# Altium footprint library RFmodules.PcbLib: 47 footprints (part 3 of 3)
Each footprint in its own frame and in the unit in brackets; x right, y up, seen from the top. Pads: shape width x height; smd on the part's side, far side on the other; paste and mask are expansions set on the pad; w line width, h text height; cw(c..) or ccw(c..) is an arc to the next point about the centre after c.
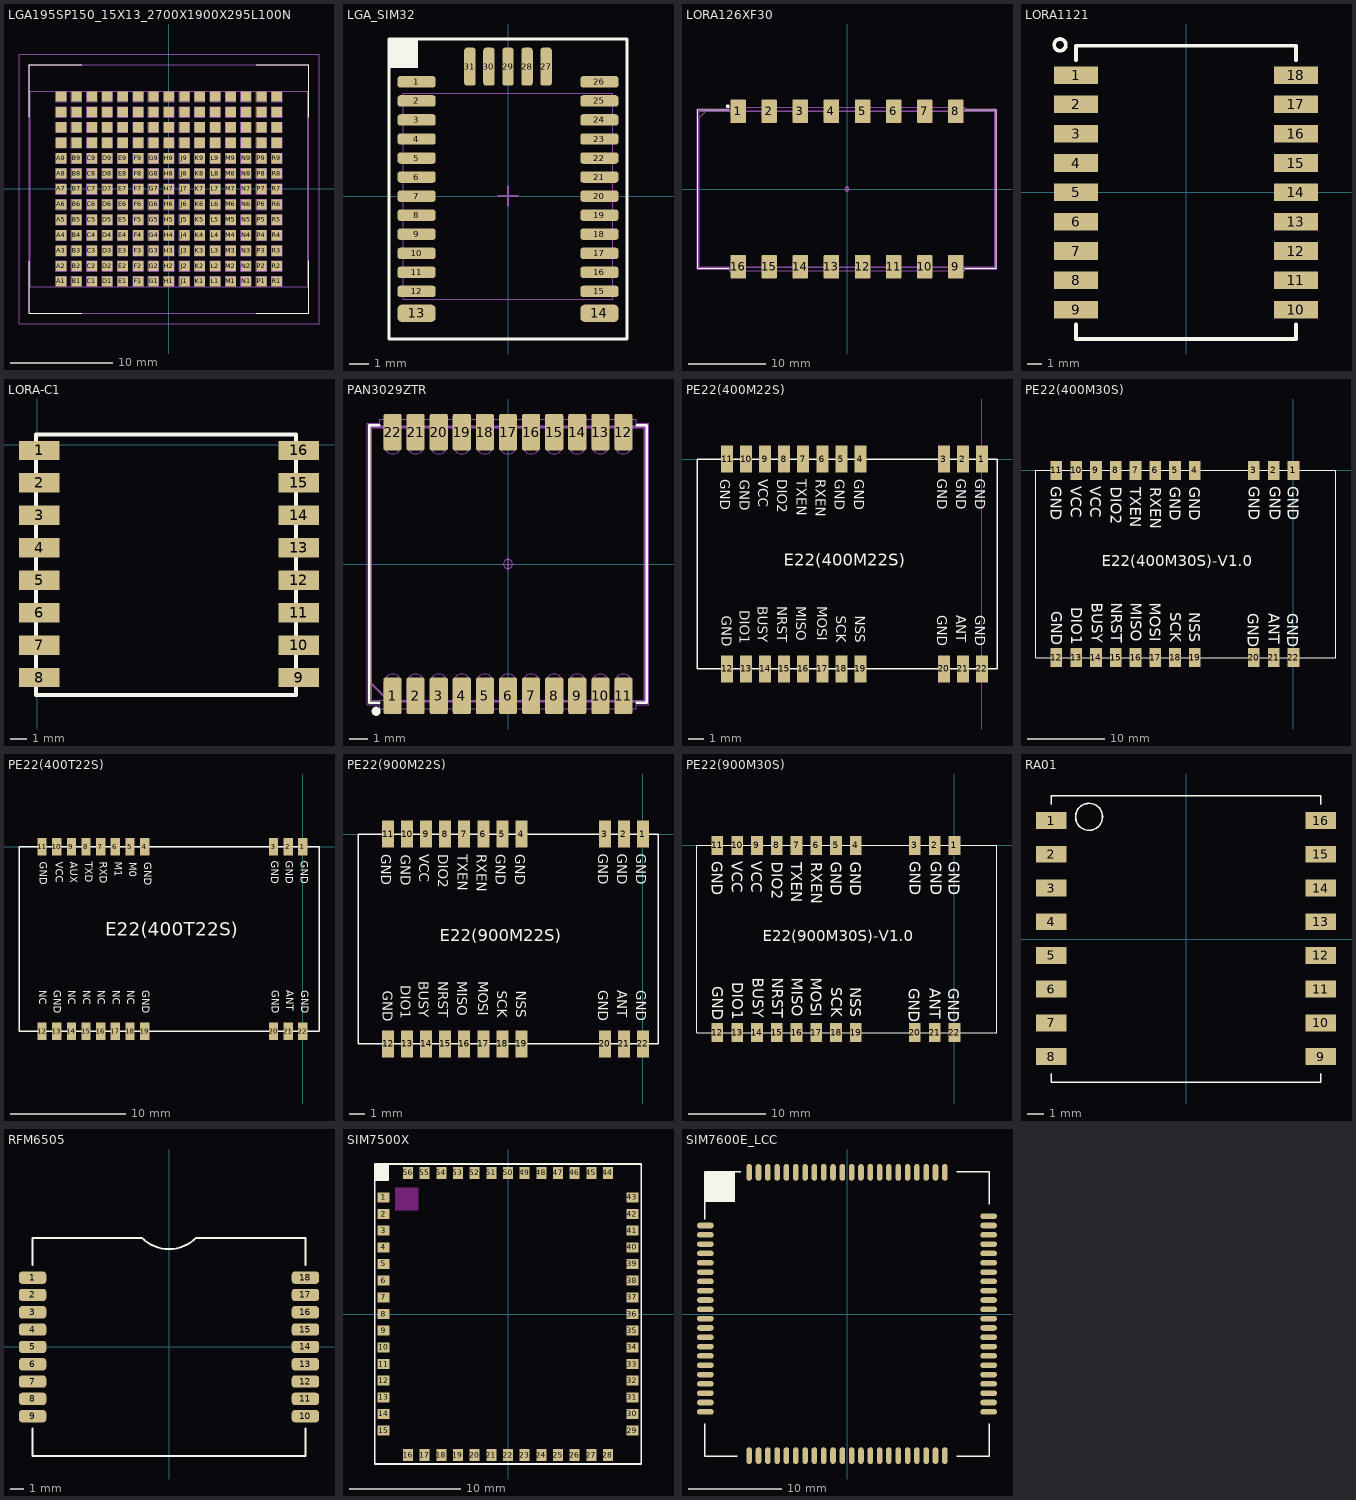
[diagram p2: the footprints below, top view; thin cyan lines are the x and y axes]

## LGA195SP150_15X13_2700X1900X295L100N [mm] "Land Grid Array (LGA), 1.50 mm pitch, rect.; 195 pin, 27.00 mm L X 19.00 mm W X 2.95 mm H body"
height 2.95
pads (195):
  rect 1x1 smd: A1(-10.5,-9) A2(-10.5,-7.5) A3(-10.5,-6) A4(-10.5,-4.5) A5(-10.5,-3) A6(-10.5,-1.5) A7(-10.5,0) A8(-10.5,1.5) A9(-10.5,3) A10(-10.5,4.5) A11(-10.5,6) A12(-10.5,7.5) A13(-10.5,9) B1(-9,-9) B2(-9,-7.5) B3(-9,-6) B4(-9,-4.5) B5(-9,-3) B6(-9,-1.5) B7(-9,0) B8(-9,1.5) B9(-9,3) B10(-9,4.5) B11(-9,6) B12(-9,7.5) B13(-9,9) C1(-7.5,-9) C2(-7.5,-7.5) C3(-7.5,-6) C4(-7.5,-4.5) C5(-7.5,-3) C6(-7.5,-1.5) C7(-7.5,0) C8(-7.5,1.5) C9(-7.5,3) C10(-7.5,4.5) C11(-7.5,6) C12(-7.5,7.5) C13(-7.5,9) D1(-6,-9) D2(-6,-7.5) D3(-6,-6) D4(-6,-4.5) D5(-6,-3) D6(-6,-1.5) D7(-6,0) D8(-6,1.5) D9(-6,3) D10(-6,4.5) D11(-6,6) D12(-6,7.5) D13(-6,9) E1(-4.5,-9) E2(-4.5,-7.5) E3(-4.5,-6) E4(-4.5,-4.5) E5(-4.5,-3) E6(-4.5,-1.5) E7(-4.5,0) E8(-4.5,1.5) E9(-4.5,3) E10(-4.5,4.5) E11(-4.5,6) E12(-4.5,7.5) E13(-4.5,9) F1(-3,-9) F2(-3,-7.5) F3(-3,-6) F4(-3,-4.5) F5(-3,-3) F6(-3,-1.5) F7(-3,0) F8(-3,1.5) F9(-3,3) F10(-3,4.5) F11(-3,6) F12(-3,7.5) F13(-3,9) G1(-1.5,-9) G2(-1.5,-7.5) G3(-1.5,-6) G4(-1.5,-4.5) G5(-1.5,-3) G6(-1.5,-1.5) G7(-1.5,0) G8(-1.5,1.5) G9(-1.5,3) G10(-1.5,4.5) G11(-1.5,6) G12(-1.5,7.5) G13(-1.5,9) H1(0,-9) H2(0,-7.5) H3(0,-6) H4(0,-4.5) H5(0,-3) H6(0,-1.5) H7(0,0) H8(0,1.5) H9(0,3) H10(0,4.5) H11(0,6) H12(0,7.5) H13(0,9) J1(1.5,-9) J2(1.5,-7.5) J3(1.5,-6) J4(1.5,-4.5) J5(1.5,-3) J6(1.5,-1.5) J7(1.5,0) J8(1.5,1.5) J9(1.5,3) J10(1.5,4.5) J11(1.5,6) J12(1.5,7.5) J13(1.5,9) K1(3,-9) K2(3,-7.5) K3(3,-6) K4(3,-4.5) K5(3,-3) K6(3,-1.5) K7(3,0) K8(3,1.5) K9(3,3) K10(3,4.5) K11(3,6) K12(3,7.5) K13(3,9) L1(4.5,-9) L2(4.5,-7.5) L3(4.5,-6) L4(4.5,-4.5) L5(4.5,-3) L6(4.5,-1.5) L7(4.5,0) L8(4.5,1.5) L9(4.5,3) L10(4.5,4.5) L11(4.5,6) L12(4.5,7.5) L13(4.5,9) M1(6,-9) M2(6,-7.5) M3(6,-6) M4(6,-4.5) M5(6,-3) M6(6,-1.5) M7(6,0) M8(6,1.5) M9(6,3) M10(6,4.5) M11(6,6) M12(6,7.5) M13(6,9) N1(7.5,-9) N2(7.5,-7.5) N3(7.5,-6) N4(7.5,-4.5) N5(7.5,-3) N6(7.5,-1.5) N7(7.5,0) N8(7.5,1.5) N9(7.5,3) N10(7.5,4.5) N11(7.5,6) N12(7.5,7.5) N13(7.5,9) P1(9,-9) P2(9,-7.5) P3(9,-6) P4(9,-4.5) P5(9,-3) P6(9,-1.5) P7(9,0) P8(9,1.5) P9(9,3) P10(9,4.5) P11(9,6) P12(9,7.5) P13(9,9) R1(10.5,-9) R2(10.5,-7.5) R3(10.5,-6) R4(10.5,-4.5) R5(10.5,-3) R6(10.5,-1.5) R7(10.5,0) R8(10.5,1.5) R9(10.5,3) R10(10.5,4.5) R11(10.5,6) R12(10.5,7.5) R13(10.5,9)
Top Overlay:
  lines w0.12: -13.58,-7 -13.58,-12.08 -8.5,-12.08 ; -13.58,7 -13.58,12.08 -8.5,12.08 ; 8.5,-12.08 13.58,-12.08 13.58,-7 ; 8.5,12.08 13.58,12.08 13.58,7
Mechanical 11:
  lines w0.12: -13.58,-12.08 13.58,-12.08 13.58,12.08 -13.58,12.08 -13.58,-12.08
Mechanical 12:
  drawing of 784 lines, arcs and shapes, not listed
Mechanical 15:
  circle w0.05: c0,0 r0.25
  lines w0.05: -0.35,0 0.35,0 ; 0,-0.35 0,0.35 ; -14.6,-13.1 14.6,-13.1 14.6,13.1 -14.6,13.1 -14.6,-13.1
Mechanical 16:
  text ".Designator" at 0,0 h1.2
3D body "LGA195SP150_15X13_2700X1900X295L100.STEP": height 2.95, standoff 0, extent -13.5,-9.5 13.5,9.5

## LGA_SIM32 [mm] "0mm"
height 2.6
pads (31):
  rrect50% 2x0.6 smd mask+0.1: 1(-4.8,6) 2(-4.8,5) 3(-4.8,4) 4(-4.8,3) 5(-4.8,2) 6(-4.8,1) 7(-4.8,0) 8(-4.8,-1) 9(-4.8,-2) 10(-4.8,-3) 11(-4.8,-4) 12(-4.8,-5) 15(4.8,-5) 16(4.8,-4) 17(4.8,-3) 18(4.8,-2) 19(4.8,-1) 20(4.8,0) 21(4.8,1) 22(4.8,2) 23(4.8,3) 24(4.8,4) 25(4.8,5) 26(4.8,6)
  rrect50% 2x0.9 smd mask+0.1: 13(-4.8,-6.15) 14(4.8,-6.15)
  rrect50% 0.6x2 smd mask+0.1: 27(2,6.8) 28(1,6.8) 29(0,6.8) 30(-1,6.8) 31(-2,6.8)
Top Overlay:
  region: -6.25,8.25 -6.25,6.75 -4.75,6.75 -4.75,8.25
  lines w0.15: -6.25,-7.5 -6.25,8.25 6.25,8.25 6.25,-7.5 -6.25,-7.5
Mechanical 15:
  lines w0.05: -5.505,-5.4 5.505,-5.4 5.505,5.4 -5.505,5.4 -5.505,-5.4
  lines w0.1: -0.5,0 0.5,0 ; 0,-0.5 0,0.5
3D body "SIM33ELA.step": height 2.25, standoff -0.03, extent -4.8,-7.225 4.8,6.75

## LORA126XF30 [mm] "Small Outline No-Lead (SON), 4.00 mm pitch; 16 pin, 38.00 mm L X 20.00 mm W X 3.00 mm H body (w/reversed pins)"
height 3
pads (16):
  rrect11% 2x3 smd: 1(-14,10) 2(-10,10) 3(-6,10) 4(-2,10) 5(2,10) 6(6,10) 7(10,10) 8(14,10) 9(14,-10) 10(10,-10) 11(6,-10) 12(2,-10) 13(-2,-10) 14(-6,-10) 15(-10,-10) 16(-14,-10)
Top Overlay:
  circle w0.25: c-15.35,10.65 r0.125
  lines w0.15: -15.175,-10.175 -19.175,-10.175 -19.175,10.175 -15.175,10.175 ; 15.175,-10.175 19.175,-10.175 19.175,10.175 15.175,10.175
Bottom Component Center:
  circle w0.05: c0,0 r0.25
  lines w0.05: -19.3,-10.3 -19.3,10.3 -15.15,10.3 -15.15,10.499 15.15,10.499 15.15,10.3 19.3,10.3 19.3,-10.3 15.15,-10.3 15.15,-10.499 -15.15,-10.499 -15.15,-10.3 -19.3,-10.3
Mechanical 9:
  lines w0.12: -19.1,-10.1 19.1,-10.1 19.1,10.1 -18.1,10.1 -19.1,9.1 -19.1,-10.1
  text ".Designator" at -4.511,-0.453 h2
Mechanical 11:
  text ".Designator" at -2.704,-0.271 h1.2
Bottom Courtyard:
  lines w0.05: -0.35,0 0.35,0 ; 0,-0.35 0,0.35
Bottom Value:
  lines w0.025: -19,-10 19,-10 19,10 -19,10 -19,-10 ; -14.9,-10 -13.1,-10 -13.1,-9.5 ccw(c-14,-9.5) -14.9,-9.5 -14.9,-10 ; -14.9,9.5 ccw(c-14,9.5) -13.1,9.5 -13.1,10 -14.9,10 -14.9,9.5 ; -10.9,-10 -9.1,-10 -9.1,-9.5 ccw(c-10,-9.5) -10.9,-9.5 -10.9,-10 ; -10.9,9.5 ccw(c-10,9.5) -9.1,9.5 -9.1,10 -10.9,10 -10.9,9.5 ; -6.9,-10 -5.1,-10 -5.1,-9.5 ccw(c-6,-9.5) -6.9,-9.5 -6.9,-10 ; -6.9,9.5 ccw(c-6,9.5) -5.1,9.5 -5.1,10 -6.9,10 -6.9,9.5 ; -2.9,-10 -1.1,-10 -1.1,-9.5 ccw(c-2,-9.5) -2.9,-9.5 -2.9,-10 ; -2.9,9.5 ccw(c-2,9.5) -1.1,9.5 -1.1,10 -2.9,10 -2.9,9.5 ; 1.1,-10 2.9,-10 2.9,-9.5 ccw(c2,-9.5) 1.1,-9.5 1.1,-10 ; 1.1,9.5 ccw(c2,9.5) 2.9,9.5 2.9,10 1.1,10 1.1,9.5 ; 5.1,-10 6.9,-10 6.9,-9.5 ccw(c6,-9.5) 5.1,-9.5 5.1,-10 ; 5.1,9.5 ccw(c6,9.5) 6.9,9.5 6.9,10 5.1,10 5.1,9.5 ; 9.1,-10 10.9,-10 10.9,-9.5 ccw(c10,-9.5) 9.1,-9.5 9.1,-10 ; 9.1,9.5 ccw(c10,9.5) 10.9,9.5 10.9,10 9.1,10 9.1,9.5 ; 13.1,-10 14.9,-10 14.9,-9.5 ccw(c14,-9.5) 13.1,-9.5 13.1,-10 ; 13.1,9.5 ccw(c14,9.5) 14.9,9.5 14.9,10 13.1,10 13.1,9.5
3D body "LORA126XF30.STEP": height 3, standoff 0, extent -19,-10.05 19,10.05

## LORA1121 [mm]
pads (18):
  rect 3x1.2 smd: 1(-7.5,8) 2(-7.5,6) 3(-7.5,4) 4(-7.5,2) 5(-7.5,0) 6(-7.5,-2) 7(-7.5,-4) 8(-7.5,-6) 9(-7.5,-8) 10(7.5,-8) 11(7.5,-6) 12(7.5,-4) 13(7.5,-2) 14(7.5,0) 15(7.5,2) 16(7.5,4) 17(7.5,6) 18(7.5,8)
Top Overlay:
  circle w0.254: c-8.593,10.057 r0.402
  lines w0.25: -7.5,-9 -7.5,-10 7.5,-10 7.5,-9 ; -7.5,9 -7.5,10 7.5,10 7.5,9
3D body: height 2, standoff 0, extent -7.5,-10 7.5,10

## LORA-C1 [mm]
pads (16):
  rect 2.5x1.2 smd: 1(0.14,-0.34) 2(0.14,-2.34) 3(0.14,-4.34) 4(0.14,-6.34) 5(0.14,-8.34) 6(0.14,-10.34) 7(0.14,-12.34) 8(0.14,-14.34) 9(16.14,-14.34) 10(16.14,-12.34) 11(16.14,-10.34) 12(16.14,-8.34) 13(16.14,-6.34) 14(16.14,-4.34) 15(16.14,-2.34) 16(16.14,-0.34)
Top Overlay:
  lines w0.25: -0.05,-15.41 -0.05,0.64 15.97,0.64 15.97,-15.41 -0.05,-15.41
3D body: height 1.5, standoff 0, extent 0.5,-15.014 15.5,0.014

## PAN3029ZTR [mm] "Small Outline No-Lead (SON), 1.27 mm pitch; 22 pin, 15.00 mm L X 15.00 mm W X 2.50 mm H body"
height 2.5
pads (22):
  rrect20% 1x2 smd: 1(-6.35,-7.25) 2(-5.08,-7.25) 3(-3.81,-7.25) 4(-2.54,-7.25) 5(-1.27,-7.25) 6(0,-7.25) 7(1.27,-7.25) 8(2.54,-7.25) 9(3.81,-7.25) 10(5.08,-7.25) 11(6.35,-7.25) 12(6.35,7.25) 13(5.08,7.25) 14(3.81,7.25) 15(2.54,7.25) 16(1.27,7.25) 17(0,7.25) 18(-1.27,7.25) 19(-2.54,7.25) 20(-3.81,7.25) 21(-5.08,7.25) 22(-6.35,7.25)
Top Overlay:
  circle w0.25: c-7.25,-8.1 r0.125
  lines w0.15: -7.075,-7.625 -7.625,-7.625 -7.625,7.625 -7.075,7.625 ; 7.075,-7.625 7.625,-7.625 7.625,7.625 7.075,7.625
Bottom Component Center:
  lines w0.05: -7.75,-7.75 -7.75,7.75 -7.05,7.75 -7.05,7.949 7.05,7.949 7.05,7.75 7.75,7.75 7.75,-7.75 7.05,-7.75 7.05,-7.949 -7.05,-7.949 -7.05,-7.75 -7.75,-7.75
Mechanical 9:
  lines w0.12: -7.55,-6.55 -6.55,-7.55 7.55,-7.55 7.55,7.55 -7.55,7.55 -7.55,-6.55
  text ".Designator" at -4.511,-0.453 h2
Mechanical 11:
  text ".Designator" at -2.704,-0.271 h1.2
Bottom Courtyard:
  circle w0.05: c0,0 r0.25
  lines w0.05: -0.35,0 0.35,0 ; 0,-0.35 0,0.35
Bottom Value:
  lines w0.025: -7.5,-7.5 -7.5,7.5 7.5,7.5 7.5,-7.5 -7.5,-7.5 ; -6.8,-7.5 -6.8,-6.5 cw(c-6.35,-6.5) -5.9,-6.5 -5.9,-7.5 -6.8,-7.5 ; -6.8,6.5 ccw(c-6.35,6.5) -5.9,6.5 -5.9,7.5 -6.8,7.5 -6.8,6.5 ; -5.53,-7.5 -5.53,-6.5 cw(c-5.08,-6.5) -4.63,-6.5 -4.63,-7.5 -5.53,-7.5 ; -5.53,6.5 ccw(c-5.08,6.5) -4.63,6.5 -4.63,7.5 -5.53,7.5 -5.53,6.5 ; -4.26,-7.5 -4.26,-6.5 cw(c-3.81,-6.5) -3.36,-6.5 -3.36,-7.5 -4.26,-7.5 ; -4.26,6.5 ccw(c-3.81,6.5) -3.36,6.5 -3.36,7.5 -4.26,7.5 -4.26,6.5 ; -2.99,-7.5 -2.99,-6.5 cw(c-2.54,-6.5) -2.09,-6.5 -2.09,-7.5 -2.99,-7.5 ; -2.99,6.5 ccw(c-2.54,6.5) -2.09,6.5 -2.09,7.5 -2.99,7.5 -2.99,6.5 ; -1.72,-7.5 -1.72,-6.5 cw(c-1.27,-6.5) -0.82,-6.5 -0.82,-7.5 -1.72,-7.5 ; -1.72,6.5 ccw(c-1.27,6.5) -0.82,6.5 -0.82,7.5 -1.72,7.5 -1.72,6.5 ; -0.45,-7.5 -0.45,-6.5 cw(c0,-6.5) 0.45,-6.5 0.45,-7.5 -0.45,-7.5 ; -0.45,6.5 ccw(c0,6.5) 0.45,6.5 0.45,7.5 -0.45,7.5 -0.45,6.5 ; 0.82,-7.5 0.82,-6.5 cw(c1.27,-6.5) 1.72,-6.5 1.72,-7.5 0.82,-7.5 ; 0.82,6.5 ccw(c1.27,6.5) 1.72,6.5 1.72,7.5 0.82,7.5 0.82,6.5 ; 2.09,-7.5 2.09,-6.5 cw(c2.54,-6.5) 2.99,-6.5 2.99,-7.5 2.09,-7.5 ; 2.09,6.5 ccw(c2.54,6.5) 2.99,6.5 2.99,7.5 2.09,7.5 2.09,6.5 ; 3.36,-7.5 3.36,-6.5 cw(c3.81,-6.5) 4.26,-6.5 4.26,-7.5 3.36,-7.5 ; 3.36,6.5 ccw(c3.81,6.5) 4.26,6.5 4.26,7.5 3.36,7.5 3.36,6.5 ; 4.63,-7.5 4.63,-6.5 cw(c5.08,-6.5) 5.53,-6.5 5.53,-7.5 4.63,-7.5 ; 4.63,6.5 ccw(c5.08,6.5) 5.53,6.5 5.53,7.5 4.63,7.5 4.63,6.5 ; 5.9,-7.5 5.9,-6.5 cw(c6.35,-6.5) 6.8,-6.5 6.8,-7.5 5.9,-7.5 ; 5.9,6.5 ccw(c6.35,6.5) 6.8,6.5 6.8,7.5 5.9,7.5 5.9,6.5
3D body "PAN3029ZTR.STEP": height 2.5, standoff 0, extent -7.5,-7.55 7.5,7.55

## PE22(400M22S) [mm] "20mm*14mm*2.8mm-S"
pads (22):
  rect 0.8x1.8 smd: 1(0,0) 2(-1.27,0) 3(-2.54,0) 4(-8.11,0) 5(-9.38,0) 6(-10.65,0) 7(-11.92,0) 8(-13.19,0) 9(-14.46,0) 10(-15.73,0) 11(-17,0) 12(-17,-14) 13(-15.73,-14) 14(-14.46,-14) 15(-13.19,-14) 16(-11.92,-14) 17(-10.65,-14) 18(-9.38,-14) 19(-8.11,-14) 20(-2.54,-14) 21(-1.27,-14) 22(0,-14)
Top Overlay:
  lines w0.1: -19,-14 1,-14 1,0 -19,0 -19,-14
  text "E22(400M22S)" at -13.208,-7.112 h0.8
  text "NSS" at -8.459,-10.444 h0.65
  text "SCK" at -9.729,-10.444 h0.65
  text "MOSI" at -10.999,-9.809 h0.65
  text "MISO" at -12.396,-9.809 h0.65
  text "NRST" at -13.666,-9.809 h0.65
  text "BUSY" at -14.936,-9.809 h0.65
  text "DIO1" at -16.14,-10.097 h0.65
  text "GND" at -17.349,-10.444 h0.65
  text "GND" at -2.996,-10.428 h0.65
  text "ANT" at -1.717,-10.428 h0.65
  text "GND" at -0.438,-10.428 h0.65
  text "GND" at -0.438,-1.323 h0.65
  text "GND" at -1.717,-1.323 h0.65
  text "GND" at -2.996,-1.323 h0.65
  text "GND" at -17.45,-1.353 h0.65
  text "GND" at -16.14,-1.373 h0.65
  text "VCC" at -14.922,-1.353 h0.65
  text "DIO2" at -13.643,-1.353 h0.65
  text "TXEN" at -12.364,-1.353 h0.65
  text "RXEN" at -11.086,-1.353 h0.65
  text "GND" at -9.807,-1.353 h0.65
  text "GND" at -8.528,-1.353 h0.65

## PE22(400M30S) [mm] "38.5mm*24mm*3.8mm-S"
pads (22):
  rect 1.5x2.5 smd: 1(0,0) 2(-2.54,0) 3(-5.08,0) 4(-12.65,0) 5(-15.19,0) 6(-17.73,0) 7(-20.27,0) 8(-22.81,0) 9(-25.35,0) 10(-27.89,0) 11(-30.43,0) 12(-30.43,-24) 13(-27.89,-24) 14(-25.35,-24) 15(-22.81,-24) 16(-20.27,-24) 17(-17.73,-24) 18(-15.19,-24) 19(-12.65,-24) 20(-5.08,-24) 21(-2.54,-24) 22(0,-24)
Top Overlay:
  lines w0.1: -33.04,-24 -33.04,0 5.46,0 5.46,-24 -33.04,-24
  text "NSS" at -13.351,-18.17 h1.4
  text "SCK" at -15.816,-18.17 h1.4
  text "MOSI" at -18.416,-16.979 h1.4
  text "MISO" at -20.881,-16.979 h1.4
  text "NRST" at -23.406,-16.979 h1.4
  text "BUSY" at -25.871,-16.979 h1.4
  text "DIO1" at -28.532,-17.552 h1.4
  text "GND" at -31.079,-18.064 h1.4
  text "GND" at -5.844,-18.291 h1.4
  text "ANT" at -3.202,-18.291 h1.4
  text "GND" at -0.775,-18.291 h1.4
  text "GND" at -0.748,-1.991 h1.4
  text "GND" at -3.07,-1.991 h1.4
  text "GND" at -5.743,-1.991 h1.4
  text "GND" at -31.143,-2.051 h1.4
  text "VCC" at -28.61,-2.051 h1.4
  text "VCC" at -26.076,-2.051 h1.4
  text "DIO2" at -23.438,-2.117 h1.4
  text "TXEN" at -20.935,-2.169 h1.4
  text "RXEN" at -18.402,-2.169 h1.4
  text "GND" at -15.899,-2.096 h1.4
  text "GND" at -13.366,-2.096 h1.4
  text "E22(400M30S)-V1.0" at -24.599,-12.278 h1.4
3D body "E22-900M30S.STEP": height 3.87, standoff -0.01, extent -32.81,-24.01 5.69,0.01

## PE22(400T22S) [mm] "26mm**16mm*3.23mm-S"
pads (22):
  rect 0.8x1.5 smd: 1(0,0) 2(-1.27,0) 3(-2.54,0) 4(-13.71,0) 5(-14.98,0) 6(-16.25,0) 7(-17.52,0) 8(-18.79,0) 9(-20.06,0) 10(-21.33,0) 11(-22.6,0) 12(-22.6,-16) 13(-21.33,-16) 14(-20.06,-16) 15(-18.79,-16) 16(-17.52,-16) 17(-16.25,-16) 18(-14.98,-16) 19(-13.71,-16) 20(-2.54,-16) 21(-1.27,-16) 22(0,-16)
Top Overlay:
  lines w0.127: -24.6,-16 1.4,-16 1.4,0 -24.6,0 -24.6,-16
  text "GND" at -1.687,-1.224 h1.1
  text "GND" at -2.966,-1.224 h1.1
  text "GND" at -2.916,-12.441 h1.1
  text "ANT" at -1.637,-12.441 h1.1
  text "GND" at -0.358,-12.441 h1.1
  text "GND" at -14.138,-12.441 h1.1
  text "NC" at -15.417,-12.441 h1.1
  text "NC" at -16.696,-12.441 h1.1
  text "NC" at -17.974,-12.441 h1.1
  text "NC" at -19.253,-12.441 h1.1
  text "NC" at -20.532,-12.441 h1.1
  text "GND" at -21.811,-12.441 h1.1
  text "NC" at -23.06,-12.441 h1.1
  text "GND" at -13.97,-1.351 h1.1
  text "GND" at -23.01,-1.301 h1.1
  text "VCC" at -21.651,-1.301 h1.1
  text "AUX" at -20.372,-1.301 h1.1
  text "TXD" at -19.093,-1.301 h1.1
  text "RXD" at -17.814,-1.301 h1.1
  text "M1" at -16.536,-1.301 h1.1
  text "M0" at -15.257,-1.351 h1.1
  text "E22(400T22S)" at -17.107,-8.126 h2
  text "GND" at -0.408,-1.224 h1.1

## PE22(900M22S) [mm] "20mm*14mm*2.8mm-S"
pads (22):
  rect 0.8x1.8 smd: 1(0,0) 2(-1.27,0) 3(-2.54,0) 4(-8.11,0) 5(-9.38,0) 6(-10.65,0) 7(-11.92,0) 8(-13.19,0) 9(-14.46,0) 10(-15.73,0) 11(-17,0) 12(-17,-14) 13(-15.73,-14) 14(-14.46,-14) 15(-13.19,-14) 16(-11.92,-14) 17(-10.65,-14) 18(-9.38,-14) 19(-8.11,-14) 20(-2.54,-14) 21(-1.27,-14) 22(0,-14)
Top Overlay:
  lines w0.1: -19,-14 1,-14 1,0 -19,0 -19,-14
  text "E22(900M22S)" at -13.539,-7.142 h0.8
  text "NSS" at -8.459,-10.444 h0.65
  text "SCK" at -9.729,-10.444 h0.65
  text "MOSI" at -10.999,-9.809 h0.65
  text "MISO" at -12.396,-9.809 h0.65
  text "NRST" at -13.666,-9.809 h0.65
  text "BUSY" at -14.936,-9.809 h0.65
  text "DIO1" at -16.14,-10.097 h0.65
  text "GND" at -17.349,-10.444 h0.65
  text "GND" at -2.996,-10.428 h0.65
  text "ANT" at -1.717,-10.428 h0.65
  text "GND" at -0.438,-10.428 h0.65
  text "GND" at -0.438,-1.323 h0.65
  text "GND" at -1.717,-1.323 h0.65
  text "GND" at -2.996,-1.323 h0.65
  text "GND" at -17.45,-1.353 h0.65
  text "GND" at -16.14,-1.373 h0.65
  text "VCC" at -14.922,-1.353 h0.65
  text "DIO2" at -13.643,-1.353 h0.65
  text "TXEN" at -12.364,-1.353 h0.65
  text "RXEN" at -11.086,-1.353 h0.65
  text "GND" at -9.807,-1.353 h0.65
  text "GND" at -8.528,-1.353 h0.65

## PE22(900M30S) [mm] "38.5mm*24mm*3.8mm-S"
pads (22):
  rect 1.5x2.5 smd: 1(0,0) 2(-2.54,0) 3(-5.08,0) 4(-12.65,0) 5(-15.19,0) 6(-17.73,0) 7(-20.27,0) 8(-22.81,0) 9(-25.35,0) 10(-27.89,0) 11(-30.43,0) 12(-30.43,-24) 13(-27.89,-24) 14(-25.35,-24) 15(-22.81,-24) 16(-20.27,-24) 17(-17.73,-24) 18(-15.19,-24) 19(-12.65,-24) 20(-5.08,-24) 21(-2.54,-24) 22(0,-24)
Top Overlay:
  lines w0.1: -33.04,-24 -33.04,0 5.46,0 5.46,-24 -33.04,-24
  text "NSS" at -13.351,-18.17 h1.4
  text "SCK" at -15.816,-18.17 h1.4
  text "MOSI" at -18.416,-16.979 h1.4
  text "MISO" at -20.881,-16.979 h1.4
  text "NRST" at -23.406,-16.979 h1.4
  text "BUSY" at -25.871,-16.979 h1.4
  text "DIO1" at -28.532,-17.552 h1.4
  text "GND" at -31.079,-18.064 h1.4
  text "GND" at -5.844,-18.291 h1.4
  text "ANT" at -3.202,-18.291 h1.4
  text "GND" at -0.775,-18.291 h1.4
  text "GND" at -0.748,-1.991 h1.4
  text "GND" at -3.07,-1.991 h1.4
  text "GND" at -5.743,-1.991 h1.4
  text "GND" at -31.143,-2.051 h1.4
  text "VCC" at -28.61,-2.051 h1.4
  text "VCC" at -26.076,-2.051 h1.4
  text "DIO2" at -23.438,-2.117 h1.4
  text "TXEN" at -20.935,-2.169 h1.4
  text "RXEN" at -18.402,-2.169 h1.4
  text "GND" at -15.899,-2.096 h1.4
  text "GND" at -13.366,-2.096 h1.4
  text "E22(900M30S)-V1.0" at -24.599,-12.278 h1.4

## RA01 [mm]
pads (16):
  rect 1.8x1 smd: 1(-8,7.025) 2(-8,5.025) 3(-8,3.025) 4(-8,1.025) 5(-8,-0.975) 6(-8,-2.975) 7(-8,-4.975) 8(-8,-6.975) 9(8,-6.975) 10(8,-4.975) 11(8,-2.975) 12(8,-0.975) 13(8,1.025) 14(8,3.025) 15(8,5.025) 16(8,7.025)
Top Overlay:
  circle w0.1: c-5.75,7.25 r0.8
  lines w0.1: -8,-8 -8,-8.5 8,-8.5 8,-8 ; -8,8 -8,8.5 8,8.5 8,8
3D body "RA-02.step": height 2.61, standoff -0.01, extent -8,-8.5 8,8.5

## RFM6505 [mm]
height 2
pads (18):
  rrect50% 2x0.9 smd: 1(-10,5.08) 2(-10,3.81) 3(-10,2.54) 4(-10,1.27) 5(-10,0) 6(-10,-1.27) 7(-10,-2.54) 8(-10,-3.81) 9(-10,-5.08) 10(10,-5.08) 11(10,-3.81) 12(10,-2.54) 13(10,-1.27) 14(10,0) 15(10,1.27) 16(10,2.54) 17(10,3.81) 18(10,5.08)
Top Overlay:
  lines w0.15: -10,-6 -10,-8 10,-8 10,-6 ; -10,6 -10,8 -2,8 ccw(c0,10) 2,8 10,8 10,6
3D body: height 2.8, standoff 0, extent -9.96,-8.05 10.16,8.05

## SIM7500X [mm]
pads (56):
  rect 1.1x0.9 smd mask+0.1: 1(-11.2,10.5) 2(-11.2,9) 3(-11.2,7.5) 4(-11.2,6) 5(-11.2,4.5) 6(-11.2,3) 7(-11.2,1.5) 8(-11.2,0) 9(-11.2,-1.5) 10(-11.2,-3) 11(-11.2,-4.5) 12(-11.2,-6) 13(-11.2,-7.5) 14(-11.2,-9) 15(-11.2,-10.5) 29(11.2,-10.5) 30(11.2,-9) 31(11.2,-7.5) 32(11.2,-6) 33(11.2,-4.5) 34(11.2,-3) 35(11.2,-1.5) 36(11.2,0) 37(11.2,1.5) 38(11.2,3) 39(11.2,4.5) 40(11.2,6) 41(11.2,7.5) 42(11.2,9) 43(11.2,10.5)
  rect 0.9x1.1 smd mask+0.1: 16(-9,-12.7) 17(-7.5,-12.7) 18(-6,-12.7) 19(-4.5,-12.7) 20(-3,-12.7) 21(-1.5,-12.7) 22(0,-12.7) 23(1.5,-12.7) 24(3,-12.7) 25(4.5,-12.7) 26(6,-12.7) 27(7.5,-12.7) 28(9,-12.7) 44(9,12.7) 45(7.5,12.7) 46(6,12.7) 47(4.5,12.7) 48(3,12.7) 49(1.5,12.7) 50(0,12.7) 51(-1.5,12.7) 52(-3,12.7) 53(-4.5,12.7) 54(-6,12.7) 55(-7.5,12.7) 56(-9,12.7)
Top Layer keep-out:
  rectangle: -10.15,9.3 -8.05,11.4
Top Overlay:
  region: -12,13.5 -11.938,13.438 -11.938,12.065 -10.795,12.065 -10.795,13.462
  lines w0.15: -11.938,12.065 -10.795,12.065 -10.795,13.462 ; -12,-13.5 -12,13.5 12,13.5 12,-13.5 -12,-13.5

## SIM7600E_LCC [mm]
pads (87):
  oval 1.8x0.6 smd: 1(-15.2,9.5) 2(-15.2,8.5) 3(-15.2,7.5) 4(-15.2,6.5) 5(-15.2,5.5) 6(-15.2,4.5) 7(-15.2,3.5) 8(-15.2,2.5) 9(-15.2,1.5) 10(-15.2,0.5) 11(-15.2,-0.5) 12(-15.2,-1.5) 13(-15.2,-2.5) 14(-15.2,-3.5) 15(-15.2,-4.5) 16(-15.2,-5.5) 17(-15.2,-6.5) 18(-15.2,-7.5) 19(-15.2,-8.5) 20(-15.2,-9.5) 41(15.2,-9.5) 42(15.2,-8.5) 43(15.2,-7.5) 44(15.2,-6.5) 45(15.2,-5.5) 46(15.2,-4.5) 47(15.2,-3.5) 48(15.2,-2.5) 49(15.2,-1.5) 50(15.2,-0.5) 51(15.2,0.5) 52(15.2,1.5) 53(15.2,2.5) 54(15.2,3.5) 55(15.2,4.5) 56(15.2,5.5) 57(15.2,6.5) 58(15.2,7.5) 59(15.2,8.5) 60(15.2,9.5) 81(-15.2,-10.5) 82(15.2,-10.5) 85(15.2,10.5)
  oval 0.6x1.8 smd: 21(-9.5,-15.2) 22(-8.5,-15.2) 23(-7.5,-15.2) 24(-6.5,-15.2) 25(-5.5,-15.2) 26(-4.5,-15.2) 27(-3.5,-15.2) 28(-2.5,-15.2) 29(-1.5,-15.2) 30(-0.5,-15.2) 31(0.5,-15.2) 32(1.5,-15.2) 33(2.5,-15.2) 34(3.5,-15.2) 35(4.5,-15.2) 36(5.5,-15.2) 37(6.5,-15.2) 38(7.5,-15.2) 39(8.5,-15.2) 40(9.5,-15.2) 61(9.5,15.2) 62(8.5,15.2) 63(7.5,15.2) 64(6.5,15.2) 65(5.5,15.2) 66(4.5,15.2) 67(3.5,15.2) 68(2.5,15.2) 69(1.5,15.2) 70(0.5,15.2) 71(-0.5,15.2) 72(-1.5,15.2) 73(-2.5,15.2) 74(-3.5,15.2) 75(-4.5,15.2) 76(-5.5,15.2) 77(-6.5,15.2) 78(-7.5,15.2) 79(-8.5,15.2) 80(-9.5,15.2) 83(10.5,-15.2) 84(-10.5,-15.2) 86(-10.5,15.2) 87(10.5,15.2)
Top Overlay:
  region: -15.254,12.065 -12.065,12.065 -12.065,15.254 -15.254,15.254
  lines w0.15: -15.254,-11.754 -15.254,-15.254 -11.754,-15.254 ; -15.254,10.16 -15.254,15.254 -11.43,15.254 ; 11.754,-15.254 15.254,-15.254 15.254,-11.754 ; 11.754,15.254 15.254,15.254 15.254,11.754
3D body "sim7600_as_pcba_181111.step": height 2.95, standoff 0.05, extent -15,-15 15,15